# EAGLE library part ALEXIOS_IDTQS3861 (library video-max5)
IDT QuickSwitch® High Speed CMOS Bus Switch with Flow-Through Pinout http://www.idt.com/products/memory-logic/bus-switch/50v-quickswitch/qs3861-high-speed-cmos-10-bit-bus-switch-flow-thru-pinout
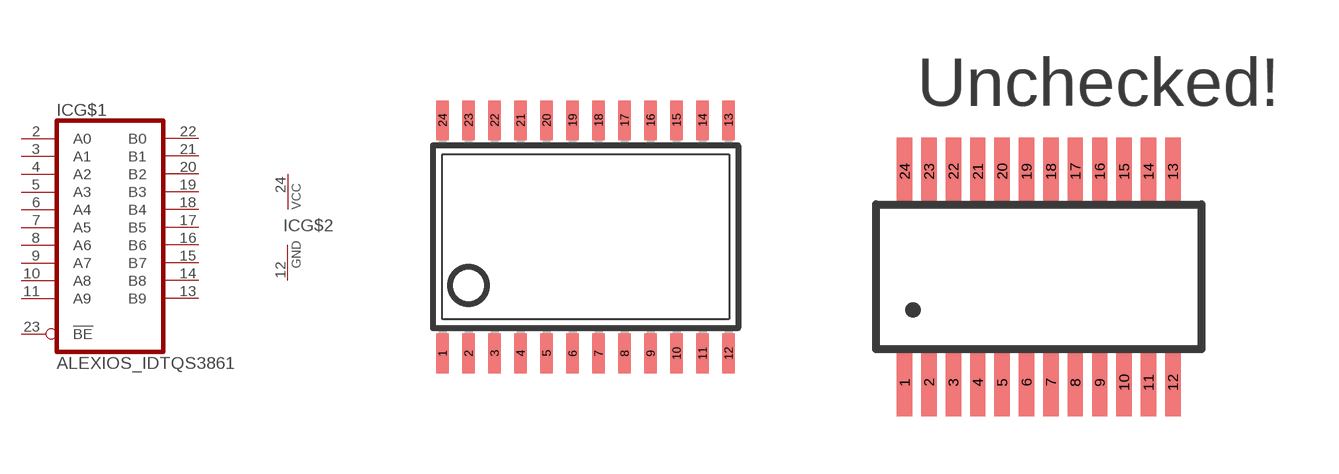
[diagram p2: symbol with the pads of ALEXIOS_TSSOP24; footprints ALEXIOS_TSSOP24, ALEXIOS_QSOP24]

Designator prefix IC; gates G$1=ALEXIOS_IDTQS3861 G$2=ALEXIOS_PWRN

## ALEXIOS_IDTQS3861PA  [ALEXIOS_TSSOP24]
2  G$1:A0
3  G$1:A1
4  G$1:A2
5  G$1:A3
6  G$1:A4
7  G$1:A5
8  G$1:A6
9  G$1:A7
10  G$1:A8
11  G$1:A9
12  G$2:GND  pwr
13  G$1:B9
14  G$1:B8
15  G$1:B7
16  G$1:B6
17  G$1:B5
18  G$1:B4
19  G$1:B3
20  G$1:B2
21  G$1:B1
22  G$1:B0
23  G$1:!BE  in
24  G$2:VCC  pwr

## ALEXIOS_IDTQS3861PAG  [ALEXIOS_TSSOP24]
Pads as for ALEXIOS_TSSOP24

## ALEXIOS_IDTQS3861Q  [ALEXIOS_QSOP24]
Pads as for ALEXIOS_TSSOP24

## ALEXIOS_IDTQS3861QG  [ALEXIOS_QSOP24]
Pads as for ALEXIOS_TSSOP24

## Footprint ALEXIOS_TSSOP24 (pad centres in mm)
Thin Shrink Small Outline Plastic 24 MAX3223-MAX3243.pdf
smd 0.305 x 0.991: 1 -3.575,-2.918; 2 -2.925,-2.918; 3 -2.275,-2.918; 4 -1.625,-2.918; 5 -0.975,-2.918; 6 -0.325,-2.918; 7 0.325,-2.918; 8 0.975,-2.918; 9 1.625,-2.918; 10 2.275,-2.918; 11 2.925,-2.918; 12 3.575,-2.918; 13 3.575,2.918; 14 2.925,2.918; 15 2.275,2.918; 16 1.625,2.918; 17 0.975,2.918; 18 0.325,2.918; 19 -0.325,2.918; 20 -0.975,2.918; 21 -1.625,2.918; 22 -2.275,2.918; 23 -2.925,2.918; 24 -3.575,2.918

## Footprint ALEXIOS_QSOP24 (pad centres in mm)
Small Outline Package
smd 0.4 x 1.762: 1 -2.858,-2.75; 2 -2.223,-2.75; 3 -1.588,-2.75; 4 -0.953,-2.75; 5 -0.318,-2.75; 6 0.317,-2.75; 7 0.952,-2.75; 8 1.587,-2.75; 9 2.222,-2.75; 10 2.857,-2.75; 11 3.492,-2.75; 12 4.127,-2.75; 13 4.127,2.75; 14 3.492,2.75; 15 2.857,2.75; 16 2.222,2.75; 17 1.587,2.75; 18 0.952,2.75; 19 0.317,2.75; 20 -0.318,2.75; 21 -0.953,2.75; 22 -1.588,2.75; 23 -2.223,2.75; 24 -2.858,2.75